# EAGLE library part TEENSY_3.6_ALL_PINS&PADS (library Teensy356)
All pins and pads on the Teensy 3.6 exposed. Assumes the use of multiple, unshrouded headers to get access to the pads on the underside of the Teensy These headers should be a 2x5, 2x4, and a 2x3 with a 0.1" hole spacing / pitch.
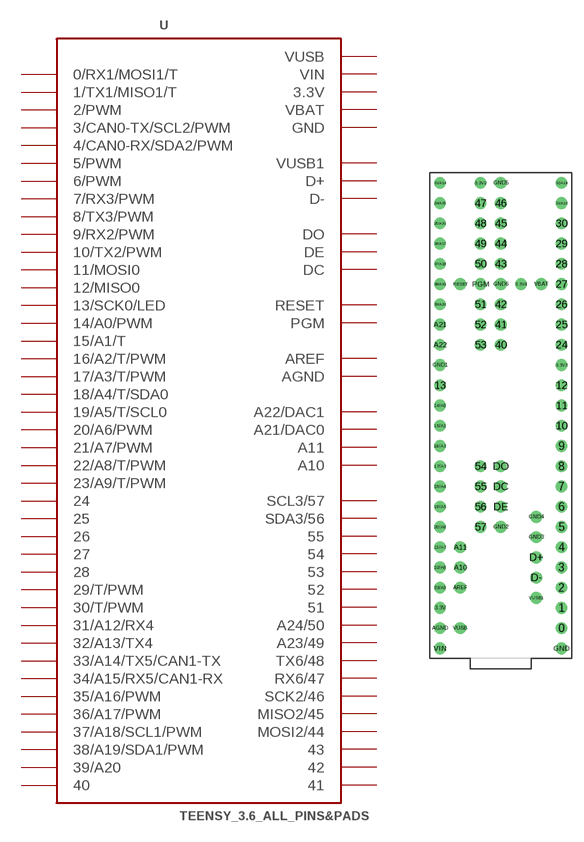
[diagram p1: symbol with the pads of TEENSY_3.6_ALL_PINS&PADS; footprint TEENSY_3.6_ALL_PINS&PADS]

Designator prefix -

## TEENSY_3.6_ALL_PINS&PADS  [TEENSY_3.6_ALL_PINS&PADS]
0  0/RX1/MOSI1/T
1  1/TX1/MISO1/T
2  2/PWM
3  3/CAN0-TX/SCL2/PWM
3.3V  3.3V  pwr
3.3V2  3.3V  pwr
3.3V3  3.3V  pwr
3.3V4  3.3V  pwr
4  4/CAN0-RX/SDA2/PWM
5  5/PWM
6  6/PWM
7  7/RX3/PWM
8  8/TX3/PWM
9  9/RX2/PWM
10  10/TX2/PWM
11  11/MOSI0
12  12/MISO0
13  13/SCK0/LED
14/A0  14/A0/PWM
15/A1  15/A1/T
16/A2  16/A2/T/PWM
17/A3  17/A3/T/PWM
18/A4  18/A4/T/SDA0
19/A5  19/A5/T/SCL0
20/A6  20/A6/PWM
21/A7  21/A7/PWM
22/A8  22/A8/T/PWM
23/A9  23/A9/T/PWM
24  24
25  25
26  26
27  27
28  28
29  29/T/PWM
30  30/T/PWM
31/A12  31/A12/RX4
32/A13  32/A13/TX4
33/A14  33/A14/TX5/CAN1-TX
34/A15  34/A15/RX5/CAN1-RX
35/A16  35/A16/PWM
36/A17  36/A17/PWM
37/A18  37/A18/SCL1/PWM
38/A19  38/A19/SDA1/PWM
39/A20  39/A20
40  40
41  41
42  42
43  43
44  MOSI2/44
45  MISO2/45
46  SCK2/46
47  RX6/47
48  TX6/48
49  A23/49
50  A24/50
51  51
52  52
53  53
54  54
55  55
56  SDA3/56
57  SCL3/57
A10  A10
A11  A11
A21  A21/DAC0
A22  A22/DAC1
AGND  AGND  pwr
AREF  AREF  pwr
D+  D+
D-  D-
DC  DC
DE  DE
DO  DO
GND  GND  pwr
GND1  GND  pwr
GND2  GND  pwr
GND3  GND  pwr
GND4  GND  pwr
GND5  GND  pwr
GND6  GND  pwr
PGM  PGM
RESET  RESET
VBAT  VBAT  pwr
VIN  VIN  pwr
VUSB  VUSB  pwr
VUSB1  VUSB1  pwr

## Footprint TEENSY_3.6_ALL_PINS&PADS (pad centres in mm)
drill 0.965: 0 6.35,-30.48; 1 6.35,-27.94; 2 6.35,-25.4; 3 6.35,-22.86; 3.3V -8.89,-27.94; 3.3V2 -3.81,25.4; 3.3V3 6.35,2.54; 3.3V4 1.27,12.7; 4 6.35,-20.32; 5 6.35,-17.78; 6 6.35,-15.24; 7 6.35,-12.7; 8 6.35,-10.16; 9 6.35,-7.62; 10 6.35,-5.08; 11 6.35,-2.54; 12 6.35,0; 13 -8.89,0; 14/A0 -8.89,-2.54; 15/A1 -8.89,-5.08; 16/A2 -8.89,-7.62; 17/A3 -8.89,-10.16; 18/A4 -8.89,-12.7; 19/A5 -8.89,-15.24; 20/A6 -8.89,-17.78; 21/A7 -8.89,-20.32; 22/A8 -8.89,-22.86; 23/A9 -8.89,-25.4; 24 6.35,5.08; 25 6.35,7.62; 26 6.35,10.16; 27 6.35,12.7; 28 6.35,15.24; 29 6.35,17.78; 30 6.35,20.32; 31/A12 6.35,22.86; 32/A13 6.35,25.4; 33/A14 -8.89,25.4; 34/A15 -8.89,22.86; 35/A16 -8.89,20.32; 36/A17 -8.89,17.78; 37/A18 -8.89,15.24; 38/A19 -8.89,12.7; 39/A20 -8.89,10.16; 40 -1.27,5.08; 41 -1.27,7.62; 42 -1.27,10.16; 43 -1.27,15.24; 44 -1.27,17.78; 45 -1.27,20.32; 46 -1.27,22.86; 47 -3.81,22.86; 48 -3.81,20.32; 49 -3.81,17.78; 50 -3.81,15.24; 51 -3.81,10.16; 52 -3.81,7.62; 53 -3.81,5.08; 54 -3.81,-10.16; 55 -3.81,-12.7; 56 -3.81,-15.24; 57 -3.81,-17.78; A10 -6.35,-22.86; A11 -6.35,-20.32; A21 -8.89,7.62; A22 -8.89,5.08; AGND -8.89,-30.48; AREF -6.35,-25.4; D+ 3.175,-21.59; D- 3.175,-24.13; DC -1.27,-12.7; DE -1.27,-15.24; DO -1.27,-10.16; GND 6.35,-33.02; GND1 -8.89,2.54; GND2 -1.27,-17.78; GND3 3.175,-19.05; GND4 3.175,-16.51; GND5 -1.27,25.4; GND6 -1.27,12.7; PGM -3.81,12.7; RESET -6.35,12.7; VBAT 3.81,12.7; VIN -8.89,-33.02; VUSB -6.35,-30.48; VUSB1 3.175,-26.67